# Altium footprint library Antenna_Class4.PcbLib: 1 footprints
Each footprint in its own frame and in the unit in brackets; x right, y up, seen from the top. Pads: shape width x height; smd on the part's side, far side on the other; paste and mask are expansions set on the pad; w line width, h text height; cw(c..) or ccw(c..) is an arc to the next point about the centre after c.
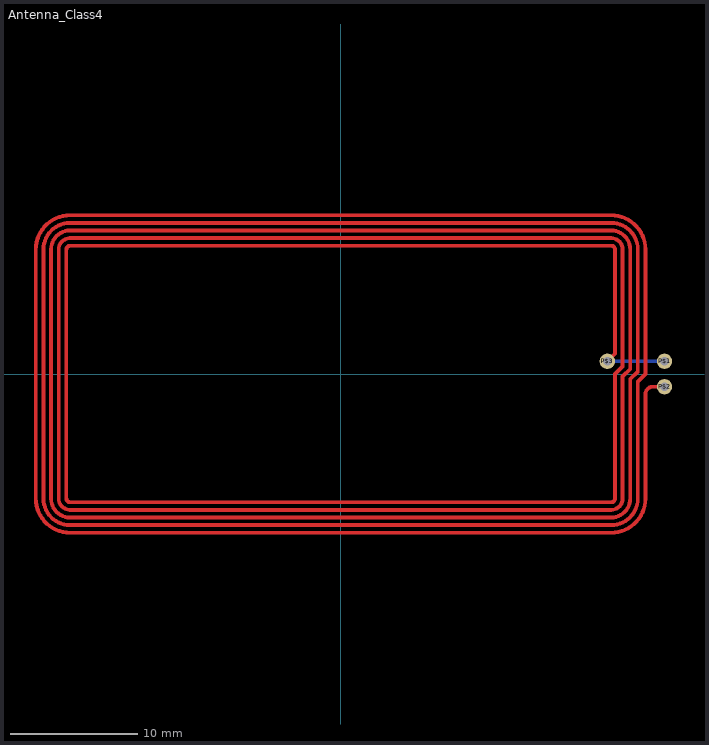
[diagram p0: the footprint, top view; thin cyan lines are the x and y axes]

## Antenna_Class4 [mm]
pads (3):
  round 1.208 / inner round 1.524 / far side round 1.208 hole 0.7: P$1(25.5,1) P$2(25.5,-1) P$3(21,1)
Top Layer:
  lines w0.3: 21,1 21.6,1.6 21.6,9.8 ccw(c21.3,9.8) 21.3,10.1 -21.3,10.1 ccw(c-21.3,9.8) -21.6,9.8 -21.6,-9.8 ccw(c-21.3,-9.8) -21.3,-10.1 21.3,-10.1 ccw(c21.3,-9.8) 21.6,-9.8 21.6,0 22.2,0.6 22.2,9.8 ccw(c21.3,9.8) 21.3,10.7 -21.3,10.7 ccw(c-21.3,9.8) -22.2,9.8 -22.2,-9.8 ccw(c-21.3,-9.8) -21.3,-10.7 21.3,-10.7 ccw(c21.3,-9.8) 22.2,-9.8 22.2,-0.2 22.8,0.4 22.8,9.8 ccw(c21.3,9.8) 21.3,11.3 -21.3,11.3 ccw(c-21.3,9.8) -22.8,9.8 -22.8,-9.8 ccw(c-21.3,-9.8) -21.3,-11.3 21.3,-11.3 ccw(c21.3,-9.8) 22.8,-9.8 22.8,-0.4 23.4,0.2 23.4,9.8 ccw(c21.3,9.8) 21.3,11.9 -21.3,11.9 ccw(c-21.3,9.8) -23.4,9.8 -23.4,-9.8 ccw(c-21.3,-9.8) -21.3,-11.9 21.3,-11.9 ccw(c21.3,-9.8) 23.4,-9.8 23.4,-0.6 24,0 24,9.8 ccw(c21.3,9.8) 21.3,12.5 -21.3,12.5 ccw(c-21.3,9.8) -24,9.8 -24,-9.8 ccw(c-21.3,-9.8) -21.3,-12.5 21.3,-12.5 ccw(c21.3,-9.8) 24,-9.8 24,-1.6 cw(c24.6,-1.6) 24.6,-1 25.5,-1
Bottom Layer:
  lines w0.3: 21,1 25.5,1
3D body: height 1.27, standoff 0, extent 20.231,0.231 21.769,1.769
3D body: height 1.27, standoff 0, extent 24.731,-1.769 26.269,-0.231
3D body: height 1.27, standoff 0, extent 24.731,0.231 26.269,1.769